# Altium schematic symbol library Q_NFET_9PIN.SchLib: 1 symbol
Pins are listed as number, name and electrical type; pins without a type are passive.

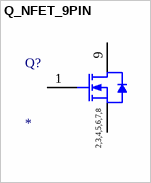
[diagram p0: symbol Q_NFET_9PIN]

## Q_NFET_9PIN
designator Q?
MP: FDBL86361-F085; MF: ON Semiconductor; Package: PowerSFN-8 ON Semiconductor; Digi-Key_Purchase_URL: https://www.digikey.com/product-detail/en/on-semiconductor/FDBL86361-F085/FDBL86361-F085CT-ND/5209202?utm_source=snapeda&utm_medium=aggregator&utm_campaign=symbol; SnapEDA_Link: https://www.snapeda.com/parts/FDBL86361-F085/ON%20Semiconductor/view-part/?ref=snap; Digi-Key_Part_Number: FDBL86361-F085CT-ND; Value: *
footprint *MOSFET_FDBL86361-F085_FDBL86361-F085(Primary)
pins: 1 GATE, 2 S, 3 S, 4 S, 5 S, 6 S, 7 S, 8 S, 9 D
text: 2,3,4,5,6,7,8